# Altium schematic symbol library Resonators.SchLib: 1 symbol
Pins are listed as number, name and electrical type; pins without a type are passive.

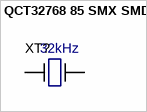
[diagram p0: symbol QCT32768 85 SMX SMD]

## QCT32768 85 SMX SMD
designator XT?, comment 32kHz
Quartz Resonator 32768HZ 20ppm 12.5pF; Manufacturer Part Number 1: QCT32768 85 SMX SMD; Frequency Stability: ±50ppm; Operating Mode: Fundamental; Frequency: 32768Hz; Frequency Tolerance: ±20ppm; Load Capacitance: 12.5pF; Operating Temperature: -20°C ~ 70°C; Mounting Type: Surface Mount; Size / Dimension: 0.118" Dia x 0.346" L (3.00mm x 8.80mm); ComponentLink1URL: http://store.comet.bg/Catalogue/Product/4178/; Height: 0.122" (3.10mm); Supplier 1: Comet; Supplier Part Number 1: QCT32768 85 SMX SMD; Tolerance: ±50ppm; Value: 32kHz
signal-integrity model Model Name (Model Description)
footprint 308C; pin to pad 2>3
pins: 1 IN, 2 OUT